# Altium schematic symbol library infineon.SCHLIB: 17 symbols
Pins are listed as number, name and electrical type; pins without a type are passive.

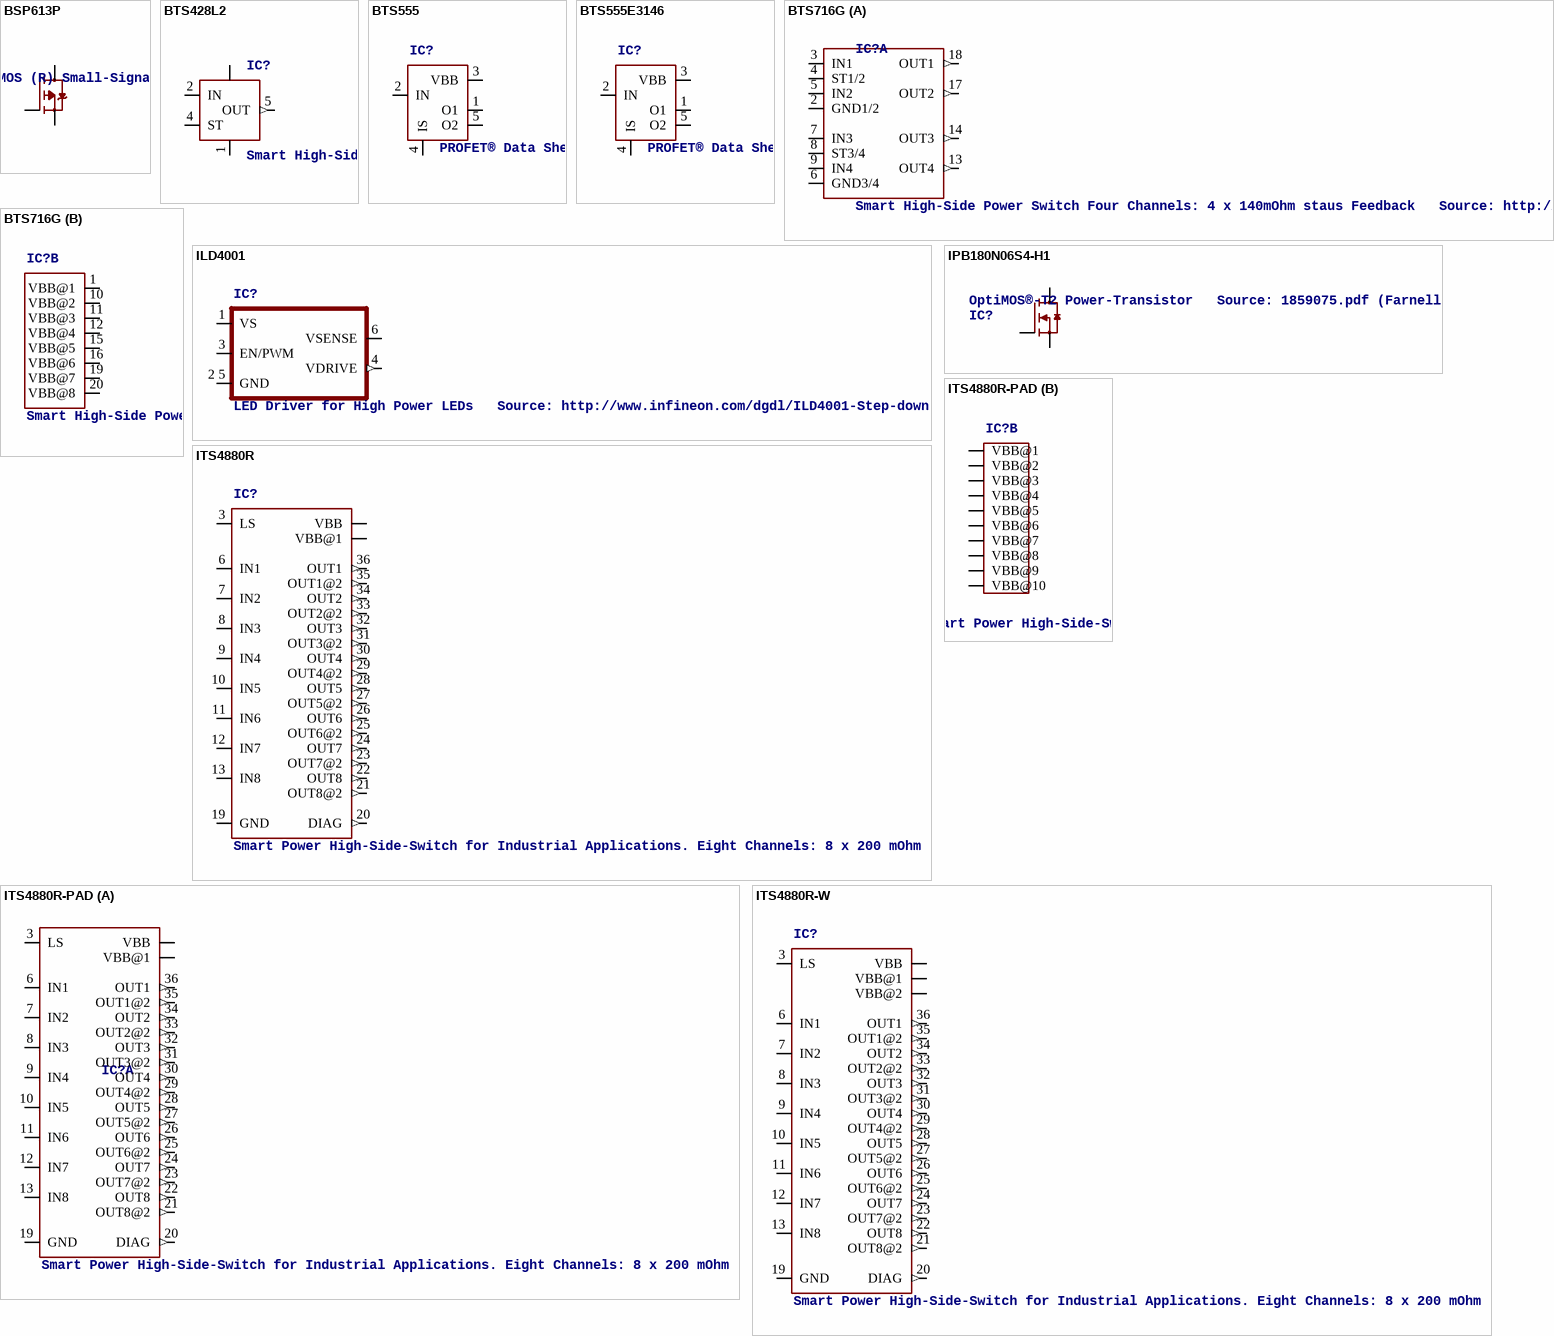
[diagram p0: symbols BSP613P to ITS4880R-W]

## BSP613P
designator Q?, comment SIPMOS (R) Small-Signal-Transistor P-Channel (2 Drain)   Source: http://www.infineon.com/dgdl/BSP613P_Rev2.4.pdf
OC_FARNELL: unknown; OC_NEWARK: unknown
footprint PG-SOT-223
pins: 1 G, 2 D@1, 3 S, 4 D@2

## BTS428L2
designator IC?, comment Smart High-Side Power Switch   One Channel: 60mOhm Status Feedback Source: Source: www.infineon.com .. BTS428L2_20030912.pdf
OC_FARNELL: unknown; OC_NEWARK: unknown
footprint TO252-5-11
pins: 1 GND (power), 2 IN, 4 ST, 5 OUT (out), TAB VBB (power)

## BTS555
designator IC?, comment PROFET® Data Sheet BTS555   Source: http://www.infineon.com/upload/Document/cmc_upload/documents/011/8726/Datasheet_BTS555.pdf
MF: FARNELL; MPN: BTS555.; OC_FARNELL: 4109260; OC_NEWARK: 26H6766
footprint TO220-51
pins: 1 O1, 2 IN, 3 VBB, 4 IS, 5 O2

## BTS555E3146
designator IC?, comment PROFET® Data Sheet BTS555   Source: http://www.infineon.com/upload/Document/cmc_upload/documents/011/8726/Datasheet_BTS555.pdf
OC_FARNELL: unknown; OC_NEWARK: unknown
footprint TO220-52
pins: 1 O1, 2 IN, 3 VBB, 4 IS, 5 O2

## BTS716G
designator IC?, comment Smart High-Side Power Switch Four Channels: 4 x 140mOhm staus Feedback   Source: http://www.infineon.com/dgdl/BTS716G.pdf
OC_FARNELL: unknown; OC_NEWARK: unknown
footprint PG-DSO-20
part A pins: 2 GND1/2, 3 IN1, 4 ST1/2, 5 IN2, 6 GND3/4, 7 IN3, 8 ST3/4, 9 IN4, 13 OUT4 (out), 14 OUT3 (out), 17 OUT2 (out), 18 OUT1 (out)
part B pins: 1 VBB@1 (power), 10 VBB@2 (power), 11 VBB@3 (power), 12 VBB@4 (power), 15 VBB@5 (power), 16 VBB@6 (power), 19 VBB@7 (power), 20 VBB@8 (power)

## ILD4001
designator IC?, comment LED Driver for High Power LEDs   Source: http://www.infineon.com/dgdl/ILD4001-Step-down-LED-Controller-Rev2.0.pdf?folderId=db3a30431f848401011fcbf2ab4c04c4&fileId=db3a30433072cd8f01308fc1af03786b
footprint SC74_INFINEON
pins: 1 VS, 2 5 GND (power), 3 EN/PWM, 4 VDRIVE (out), 6 VSENSE

## IPB180N06S4-H1
designator IC?, comment OptiMOS®-T2 Power-Transistor   Source: 1859075.pdf (Farnell)
footprint PG-TO263-7-3
pins: 1 G, 2 3 5 6 7 S, 8 D

## ITS4880R
designator IC?, comment Smart Power High-Side-Switch for Industrial Applications. Eight Channels: 8 x 200 mOhm   Source: http://www.infineon.com .. ITS4880R_20060309.pdf
MPN: ITS4880R; OC_FARNELL: 1440818; OC_NEWARK: 58M7534
footprint PG-DSO-36
pins: 3 LS, 6 IN1, 7 IN2, 8 IN3, 9 IN4, 10 IN5, 11 IN6, 12 IN7, 13 IN8, 19 GND (power), 20 DIAG (out), 21 OUT8@2 (out), 22 OUT8 (out), 23 OUT7@2 (out), 24 OUT7 (out), 25 OUT6@2 (out), 26 OUT6 (out), 27 OUT5@2 (out), 28 OUT5 (out), 29 OUT4@2 (out), 30 OUT4 (out), 31 OUT3@2 (out), 32 OUT3 (out), 33 OUT2@2 (out), 34 OUT2 (out), 35 OUT1@2 (out), 36 OUT1 (out), TH@1 VBB, TH@2 VBB@1

## ITS4880R-PAD
designator IC?, comment Smart Power High-Side-Switch for Industrial Applications. Eight Channels: 8 x 200 mOhm   with thermal pad to bottom side Source: http://www.infineon.com .. ITS4880R_20060309.pdf
OC_FARNELL: unknown; OC_NEWARK: unknown
footprint PG-DSO-36PAD
part A pins: 3 LS, 6 IN1, 7 IN2, 8 IN3, 9 IN4, 10 IN5, 11 IN6, 12 IN7, 13 IN8, 19 GND (power), 20 DIAG (out), 21 OUT8@2 (out), 22 OUT8 (out), 23 OUT7@2 (out), 24 OUT7 (out), 25 OUT6@2 (out), 26 OUT6 (out), 27 OUT5@2 (out), 28 OUT5 (out), 29 OUT4@2 (out), 30 OUT4 (out), 31 OUT3@2 (out), 32 OUT3 (out), 33 OUT2@2 (out), 34 OUT2 (out), 35 OUT1@2 (out), 36 OUT1 (out), TH@1 VBB, TH@2 VBB@1
part B pins: TH@3 VBB@1, TH@4 VBB@2, TH@5 VBB@3, TH@6 VBB@4, TH@7 VBB@5, TH@8 VBB@6, TH@9 VBB@7, TH@10 VBB@8, TH@11 VBB@9, TH@12 VBB@10

## ITS4880R-W
designator IC?, comment Smart Power High-Side-Switch for Industrial Applications. Eight Channels: 8 x 200 mOhm   with pad for hand soldering Source: http://www.infineon.com .. ITS4880R_20060309.pdf
OC_FARNELL: unknown; OC_NEWARK: unknown
footprint PG-DSO-36W
pins: 3 LS, 6 IN1, 7 IN2, 8 IN3, 9 IN4, 10 IN5, 11 IN6, 12 IN7, 13 IN8, 19 GND (power), 20 DIAG (out), 21 OUT8@2 (out), 22 OUT8 (out), 23 OUT7@2 (out), 24 OUT7 (out), 25 OUT6@2 (out), 26 OUT6 (out), 27 OUT5@2 (out), 28 OUT5 (out), 29 OUT4@2 (out), 30 OUT4 (out), 31 OUT3@2 (out), 32 OUT3 (out), 33 OUT2@2 (out), 34 OUT2 (out), 35 OUT1@2 (out), 36 OUT1 (out), TH@1 VBB, TH@2 VBB@1, TH@3 VBB@2

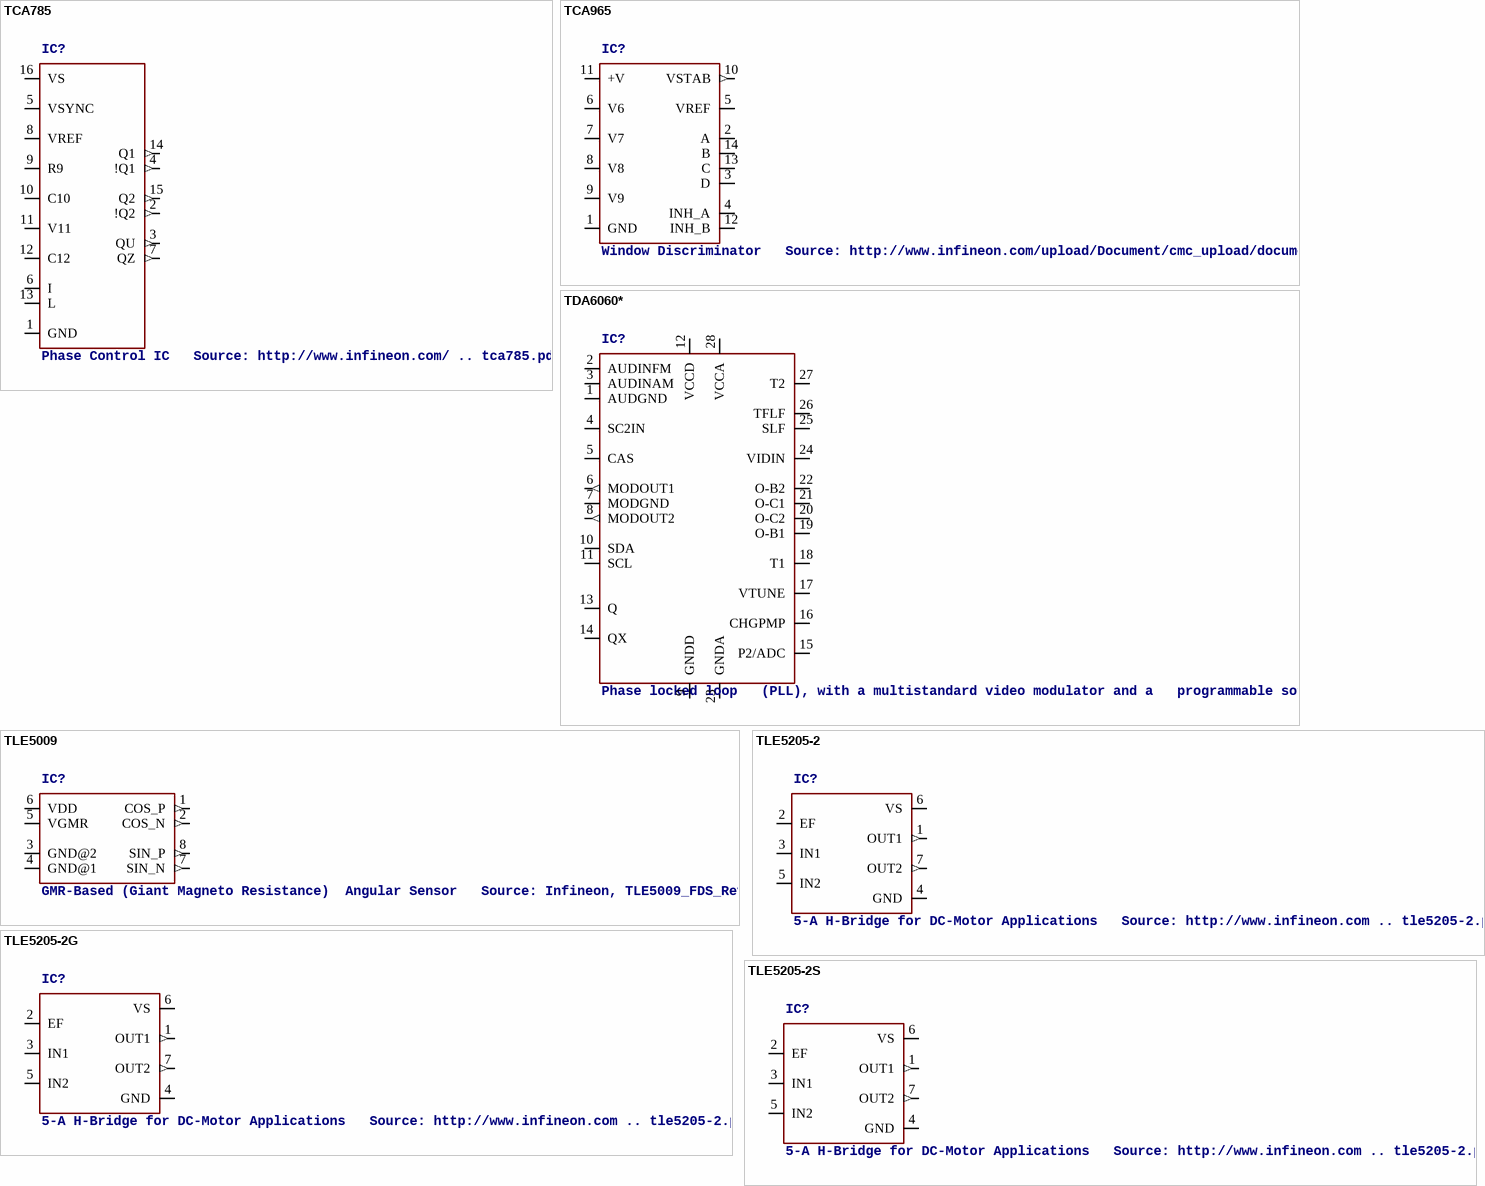
[diagram p1: symbols TCA785 to TLE5205-2S]

## TCA785
designator IC?, comment Phase Control IC   Source: http://www.infineon.com/ .. tca785.pdf
OC_FARNELL: unknown; OC_NEWARK: unknown
footprint DIL16
pins: 1 GND (power), 2 !Q2 (out), 3 QU (out), 4 !Q1 (out), 5 VSYNC, 6 I, 7 QZ (out), 8 VREF, 9 R9, 10 C10, 11 V11, 12 C12, 13 L, 14 Q1 (out), 15 Q2 (out), 16 VS

## TCA965
designator IC?, comment Window Discriminator   Source: http://www.infineon.com/upload/Document/cmc_upload/documents/012/1090/tca965b_green_050217.pdf
OC_FARNELL: unknown; OC_NEWARK: unknown
footprint DIL14
pins: 1 GND (power), 2 A (oc), 3 D (oc), 4 INH_A, 5 VREF, 6 V6, 7 V7, 8 V8, 9 V9, 10 VSTAB (out), 11 +V (power), 12 INH_B, 13 C (oc), 14 B (oc)

## TDA6060*
designator IC?, comment Phase locked loop   (PLL), with a multistandard video modulator and a   programmable sound FM and AM modulator
OC_FARNELL: unknown; OC_NEWARK: unknown
footprint P-TSSOP28-1
pins: 1 AUDGND (power), 2 AUDINFM, 3 AUDINAM, 4 SC2IN, 5 CAS, 6 MODOUT1 (out), 7 MODGND (power), 8 MODOUT2 (out), 9 GNDD (power), 10 SDA, 11 SCL, 12 VCCD (power), 13 Q, 14 QX, 15 P2/ADC, 16 CHGPMP, 17 VTUNE, 18 T1, 19 O-B1, 20 O-C2, 21 O-C1, 22 O-B2, 23 GNDA (power), 24 VIDIN, 25 SLF, 26 TFLF, 27 T2, 28 VCCA (power)

## TLE5009
designator IC?, comment GMR-Based (Giant Magneto Resistance)  Angular Sensor   Source: Infineon, TLE5009_FDS_Rev.1.1.pdf
footprint PG-DSO-8
pins: 1 COS_P (out), 2 COS_N (out), 3 GND@2 (power), 4 GND@1 (power), 5 VGMR, 6 VDD (power), 7 SIN_N (out), 8 SIN_P (out)

## TLE5205-2
designator IC?, comment 5-A H-Bridge for DC-Motor Applications   Source: http://www.infineon.com .. tle5205-2.pdf
OC_FARNELL: unknown; OC_NEWARK: unknown
footprint P-TO220-7-11
pins: 1 OUT1 (out), 2 EF (oc), 3 IN1, 4 GND (power), 5 IN2, 6 VS, 7 OUT2 (out)

## TLE5205-2G
designator IC?, comment 5-A H-Bridge for DC-Motor Applications   Source: http://www.infineon.com .. tle5205-2.pdf
OC_FARNELL: unknown; OC_NEWARK: unknown
footprint P-TO263-7-1
pins: 1 OUT1 (out), 2 EF (oc), 3 IN1, 4 GND (power), 5 IN2, 6 VS, 7 OUT2 (out)

## TLE5205-2S
designator IC?, comment 5-A H-Bridge for DC-Motor Applications   Source: http://www.infineon.com .. tle5205-2.pdf
OC_FARNELL: unknown; OC_NEWARK: unknown
footprint P-TO220-7-12
pins: 1 OUT1 (out), 2 EF (oc), 3 IN1, 4 GND (power), 5 IN2, 6 VS, 7 OUT2 (out)